# EAGLE library part RFM69HCW (library I'mRADIOactive)
RFM69HCW - ISM Band RF Transceiver
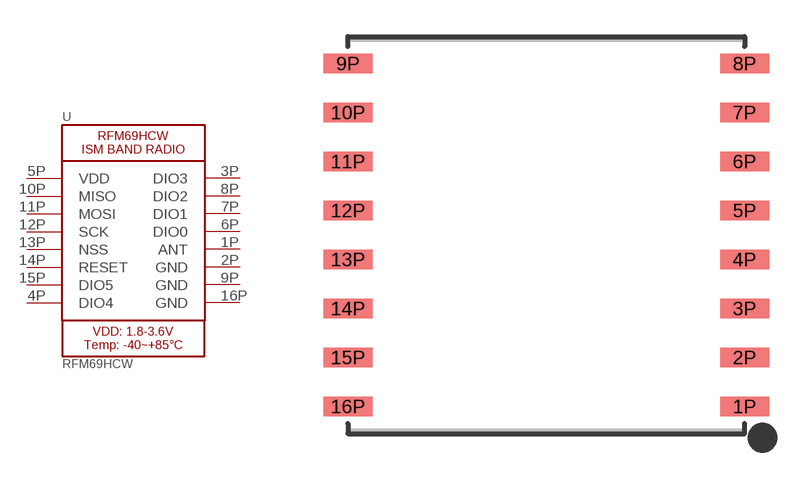
[diagram p0: symbol with the pads of RFMHCW_SMT; footprint RFMHCW_SMT]

Designator prefix U

## RFM69HCW_SMT (DKPN: 1568-1394-ND)  [RFMHCW_SMT]
1P  ANT  pas
2P  GND  pas
3P  DIO3  pas
4P  DIO4  pas
5P  VDD  pas
6P  DIO0  pas
7P  DIO1  pas
8P  DIO2  pas
9P  GND  pas
10P  MISO  pas
11P  MOSI  pas
12P  SCK  pas
13P  NSS  pas
14P  RESET  pas
15P  DIO5  pas
16P  GND  pas

## Footprint RFMHCW_SMT (pad centres in mm)
Datasheet <https://cdn.sparkfun.com/datasheets/Wireless/General/RFM69HCW-V1.1.pdf>
smd 2 x 0.8: 1P 8.1,-7; 2P 8.1,-5; 3P 8.1,-3; 4P 8.1,-1; 5P 8.1,1; 6P 8.1,3; 7P 8.1,5; 8P 8.1,7; 9P -8.1,7; 10P -8.1,5; 11P -8.1,3; 12P -8.1,1; 13P -8.1,-1; 14P -8.1,-3; 15P -8.1,-5; 16P -8.1,-7